# Altium schematic symbol library Schlib1.SchLib: 9 symbols
Pins are listed as number, name and electrical type; pins without a type are passive.

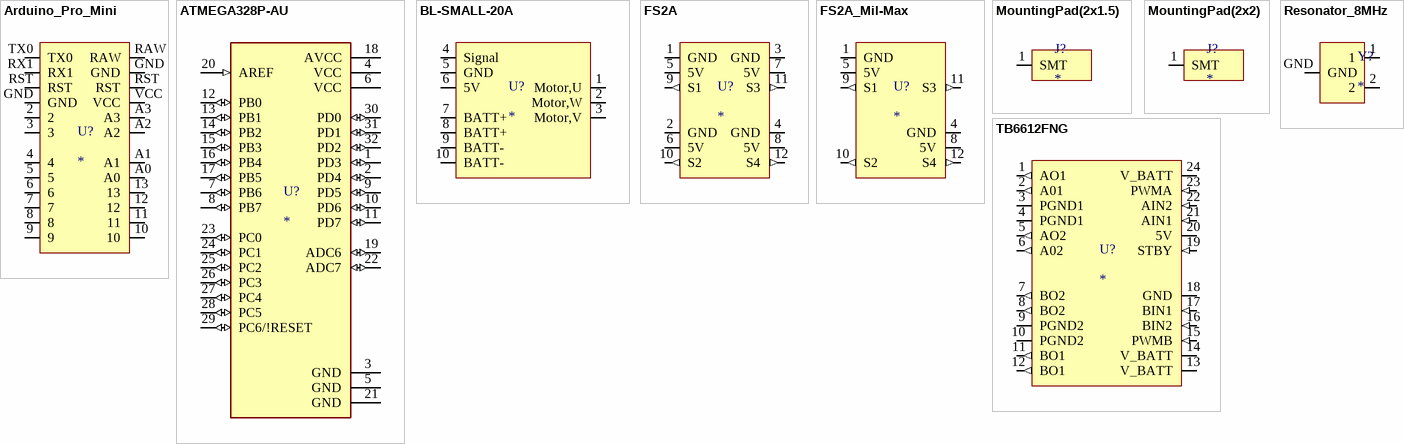
[diagram p0: symbols Arduino_Pro_Mini to TB6612FNG]

## Arduino_Pro_Mini
designator U?
footprint Arduino_Pro_Mini
pins: 2 (io), 3 (io), 4 (io), 5 (io), 6 (io), 7 (io), 8 (io), 9 (io), 10 (io), 11 (io), 12 (io), 13 (io), A0 (io), A1 (io), A2 (io), A3 (io), GND (power), GND (power), RAW (power), RST (io), RST (io), RX1 (io), TX0 (io), VCC (power)

## ATMEGA328P-AU
designator U?
AVR AVRÂ® ATmega Microcontroller IC 8-Bit 20MHz 32KB _16K x 16_ FLASH 32-TQFP _7x7_; MP: ATMEGA328P-AU; MF: Microchip Technology; Availability: Unavailable; Package: TQFP-32 Microchip Technology; Value: *; Price: None; SnapEDA_Link: https://www.snapeda.com/parts/ATMEGA328P-AU/Microchip/view-part/4593405/?ref=snap
footprint ATMEGA328P-AU
pins: 1 PD3 (io), 2 PD4 (io), 3 GND (power), 4 VCC (power), 5 GND (power), 6 VCC (power), 7 PB6 (io), 8 PB7 (io), 9 PD5 (io), 10 PD6 (io), 11 PD7 (io), 12 PB0 (io), 13 PB1 (io), 14 PB2 (io), 15 PB3 (io), 16 PB4 (io), 17 PB5 (io), 18 AVCC (power), 19 ADC6 (io), 20 AREF (in), 21 GND (power), 22 ADC7 (io), 23 PC0 (io), 24 PC1 (io), 25 PC2 (io), 26 PC3 (io), 27 PC4 (io), 28 PC5 (io), 29 PC6/!RESET (io), 30 PD0 (io), 31 PD1 (io), 32 PD2 (io)

## BL-SMALL-20A
designator U?
footprint BL-SMALL-20A
pins: 1 Motor,U, 2 Motor,W, 3 Motor,V, 4 Signal, 5 GND, 6 5V, 7 BATT+, 8 BATT+, 9 BATT-, 10 BATT-

## FS2A
designator U?
footprint FS2A
pins: 1 GND (power), 2 GND (power), 3 GND (power), 4 GND (power), 5 5V (power), 6 5V (power), 7 5V (power), 8 5V (power), 9 S1 (out), 10 S2 (out), 11 S3 (out), 12 S4 (out)

## FS2A_Mil-Max
designator U?
footprint FS2A_Mil-Max
pins: 1 GND (power), 4 GND (power), 5 5V (power), 8 5V (power), 9 S1 (out), 10 S2 (out), 11 S3 (out), 12 S4 (out)

## MountingPad(2x1.5)
designator J?
footprint MountingPad(2x1.5)
pins: 1 SMT

## MountingPad(2x2)
designator J?
footprint MountingPad(2x2)
pins: 1 SMT

## Resonator_8MHz
designator Y?
footprint Resonator_8MHz
pins: 1, 2, GND

## TB6612FNG
designator U?
footprint TB6612FNG
pins: 1 AO1 (out), 2 A01 (out), 3 PGND1, 4 PGND1, 5 AO2 (out), 6 A02 (out), 7 BO2 (out), 8 BO2 (out), 9 PGND2, 10 PGND2, 11 BO1 (out), 12 BO1 (out), 13 V_BATT (power), 14 V_BATT (power), 15 PWMB (in), 16 BIN2 (in), 17 BIN1 (in), 18 GND, 19 STBY (in), 20 5V (power), 21 AIN1 (in), 22 AIN2 (in), 23 PWMA (in), 24 V_BATT (power)